# Altium schematic symbol library Schlib1.SchLib: 2 symbols
Pins are listed as number, name and electrical type; pins without a type are passive.

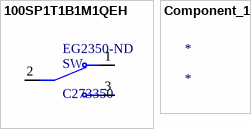
[diagram p0: symbols 100SP1T1B1M1QEH to Component_1]

## 100SP1T1B1M1QEH
designator SW, comment C273350  Supplier Part Number 1: EG2350-ND
Toggle Switch, SPDT, On-on, Horizontal, 5A, 28VDC, Solder Terminal, Toggle Actuator, Through Hole-straight; Manufacturer: E-Switch; Manufacturer Part Number: 100SP1T1B1M1QEH; Supplier 1: Digi-Key; RoHS: Yes; Category: Toggle Switches; Stock 1: 2579; Pricing 1: 1=2,96, 10=2,654, 25=2,5076, 50=2,3976, 100=2,2752, 250=2,17736, 500=2,00612, 1000=1,90825 (USD); RoHS Compliant: Yes; ComponentLink1URL: https://datasheet.ciiva.com:443/pdfs/VipMasterIC/IC/ESCH/ESCH-S-A0009360258/ESCH-S-A0005348009-1.pdf?src-supplier=IHS+Markit; ComponentLink1Description: https://datasheet.ciiva.com:443/pdfs/VipMasterIC/IC/ESCH/ESCH-S-A0009360258/ESCH-S-A0005348009-1.pdf?src-supplier=IHS+Markit; ComponentLink2URL: https://datasheet.ciiva.com/2904/st110007c-2904798.pdf?src-supplier=Digi-Key; ComponentLink2Description: https://datasheet.ciiva.com/2904/st110007c-2904798.pdf?src-supplier=Digi-Key; ComponentLink3URL: https://datasheet.ciiva.com/16154/xt0157p-16154561.pdf?src-supplier=Onlinecomponents.com; ComponentLink3Description: https://datasheet.ciiva.com/16154/xt0157p-16154561.pdf?src-supplier=Onlinecomponents.com; ComponentLink4URL: https://datasheet.ciiva.com/16347/100-16347391.pdf?src-supplier=Future+Electronics; ComponentLink4Description: https://datasheet.ciiva.com/16347/100-16347391.pdf?src-supplier=Future+Electronics
footprint SW_100SP1T1B1M1QEH
pins: 1, 2, 3

## Component_1
designator *